# Altium schematic symbol library LED_0603_BLUE.SchLib: 1 symbol
Pins are listed as number, name and electrical type; pins without a type are passive.

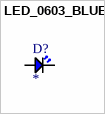
[diagram p0: symbol LED_0603_BLUE]

## LED_0603_BLUE
designator D?
20mA 300mcd Colorless Transparent Lens Positive Stick 455nm~475nm Blue 120° 70mW 3.3V 0603 LED Indication - Discrete ROHS; Manufacturer: XINGLIGHT; Manufacturer Part: XL-1608UBC-04; Forward Current: 20mA; Forward Voltage: 3.3V; ComponentLink1Description: Datasheet; ComponentLink1URL: https://www.lcsc.com/datasheet/lcsc_datasheet_2504101957_XINGLIGHT-XL-1608UBC-04_C965807.pdf
footprint LED_0603_BLUE
pins: 1, 2